# Altium footprint library relay.PCBLIB: 291 footprints (part 10 of 19)
Each footprint in its own frame and in the unit in brackets; x right, y up, seen from the top. Pads: shape width x height; smd on the part's side, far side on the other; paste and mask are expansions set on the pad; w line width, h text height; cw(c..) or ccw(c..) is an arc to the next point about the centre after c.
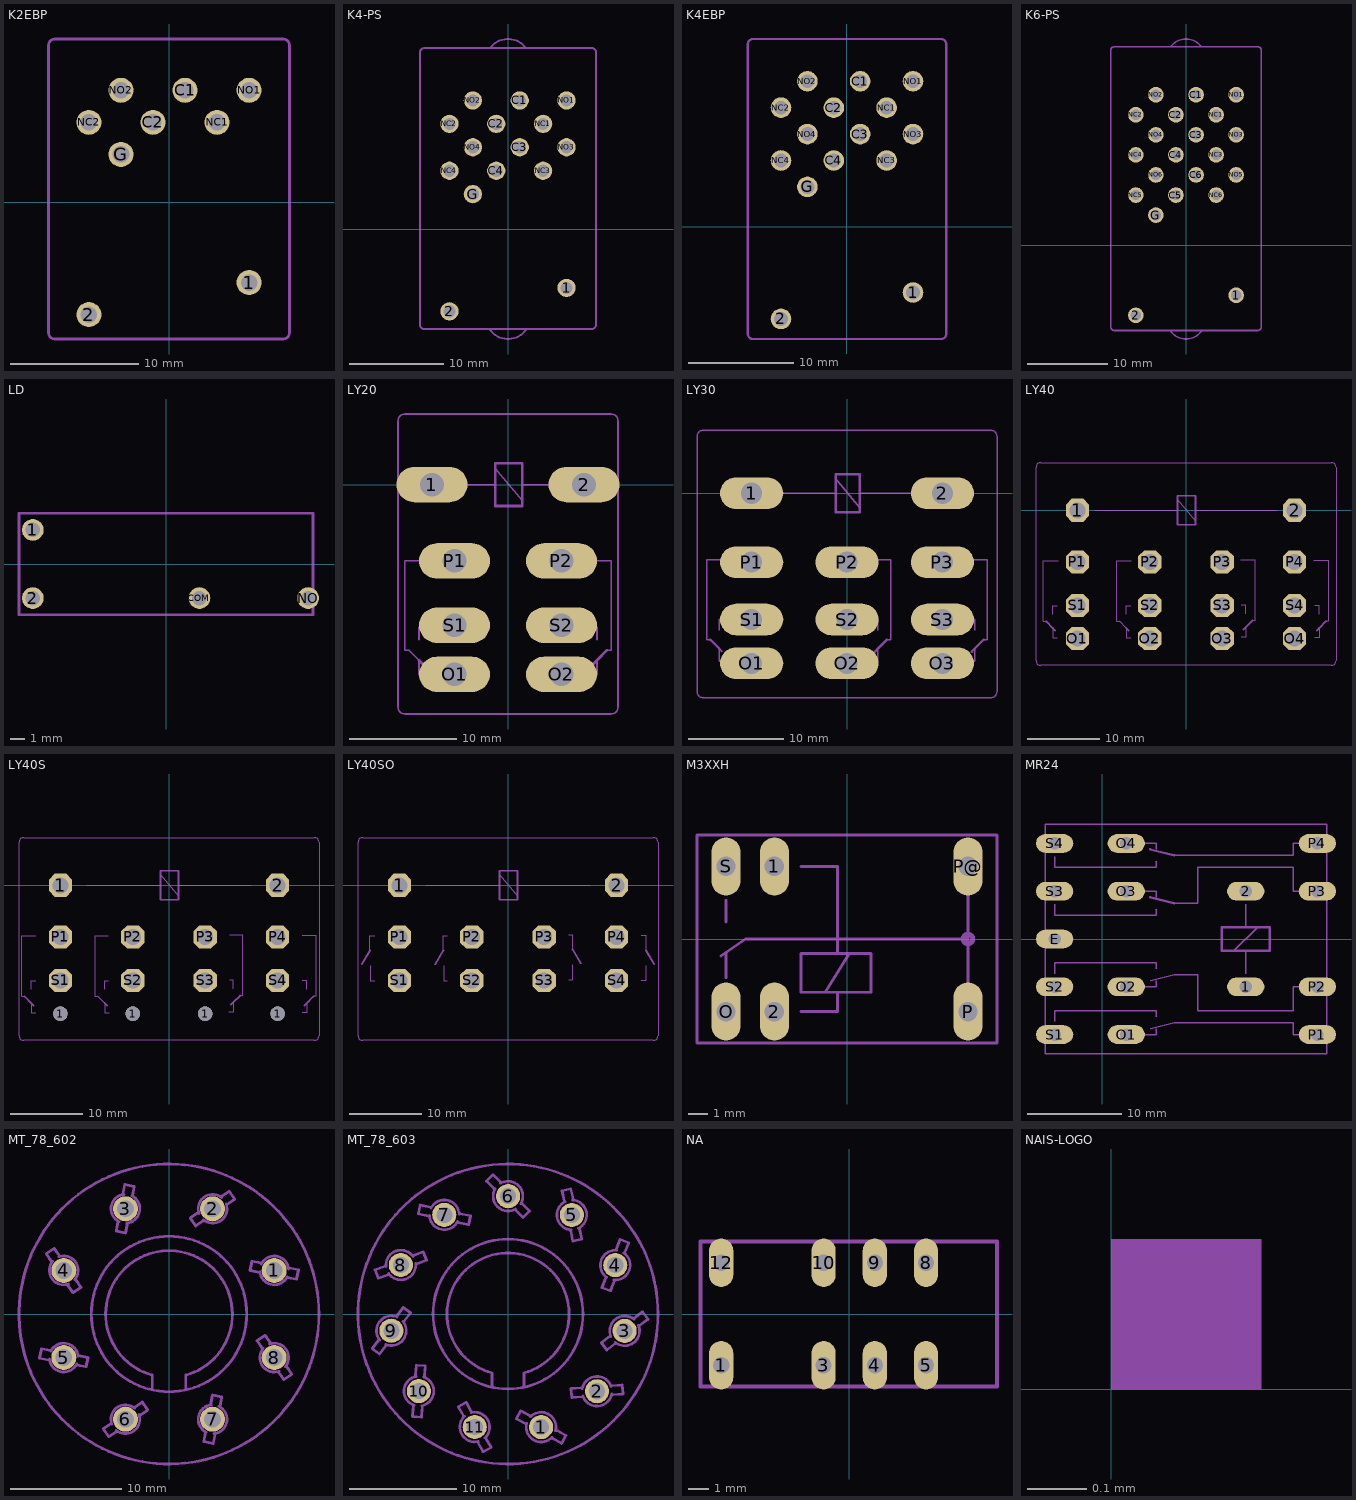
[diagram p9: the footprints below, top view; thin cyan lines are the x and y axes]

## K2EBP [mil]
pads (9):
  round 76.77 hole 51.18: 1(246.06,-246.06) 2(-246.06,-344.49) C1(49.21,344.49) C2(-49.21,246.06) G(-147.64,147.64) NC1(147.64,246.06) NC2(-246.06,246.06) NO1(246.06,344.49) NO2(-147.64,344.49)
Mechanical 2:
  lines w8: -370.08,-399.61 -370.08,482.28 cw(c-350.39,482.28) -350.39,501.97 350.39,501.97 cw(c350.39,482.28) 370.08,482.28 370.08,-399.61 cw(c350.39,-399.61) 350.39,-419.29 -350.39,-419.29 cw(c-350.39,-399.61) -370.08,-399.61

## K4-PS [mil]
pads (15):
  round 76.77 hole 51.18: 1(246.06,-246.06) 2(-246.06,-344.49) C1(49.21,541.34) C2(-49.21,442.91) C3(49.21,344.49) C4(-49.21,246.06) G(-147.64,147.64) NC1(147.64,442.91) NC2(-246.06,442.91) NC3(147.64,246.06) NC4(-246.06,246.06) NO1(246.06,541.34) NO2(-147.64,541.34) NO3(246.06,344.49) NO4(-147.64,344.49)
Mechanical 2:
  lines w8: -74.8,-423.23 ccw(c0,-367.34) 74.8,-423.23 ; -74.8,761.81 -350.39,761.81 ccw(c-350.39,742.12) -370.08,742.13 -370.08,-399.61 ccw(c-350.39,-399.61) -350.39,-419.29 350.39,-419.29 ccw(c350.39,-399.61) 370.08,-399.61 370.08,742.13 ccw(c350.39,742.12) 350.39,761.81 74.8,761.81 ; -74.8,761.81 74.8,761.81 ; -74.8,761.81 cw(c0,705.92) 74.8,761.81

## K4EBP [mil]
pads (15):
  round 76.77 hole 51.18: 1(246.06,-246.06) 2(-246.06,-344.49) C1(49.21,541.34) C2(-49.21,442.91) C3(49.21,344.49) C4(-49.21,246.06) G(-147.64,147.64) NC1(147.64,442.91) NC2(-246.06,442.91) NC3(147.64,246.06) NC4(-246.06,246.06) NO1(246.06,541.34) NO2(-147.64,541.34) NO3(246.06,344.49) NO4(-147.64,344.49)
Mechanical 2:
  lines w8: -370.08,-399.61 -370.08,679.13 cw(c-350.39,679.13) -350.39,698.82 350.39,698.82 cw(c350.39,679.13) 370.08,679.13 370.08,-399.61 cw(c350.39,-399.61) 350.39,-419.29 -350.39,-419.29 cw(c-350.39,-399.61) -370.08,-399.61

## K6-PS [mil]
pads (21):
  round 76.77 hole 51.18: 1(246.06,-246.06) 2(-246.06,-344.49) C1(49.21,738.19) C2(-49.21,639.76) C3(49.21,541.34) C4(-49.21,442.91) C5(-49.21,246.06) C6(49.21,344.49) G(-147.64,147.64) NC1(147.64,639.76) NC2(-246.06,639.76) NC3(147.64,442.91) NC4(-246.06,442.91) NC5(-246.06,246.06) NC6(147.64,246.06) NO1(246.06,738.19) NO2(-147.64,738.19) NO3(246.06,541.34) NO4(-147.64,541.34) NO5(246.06,344.49) NO6(-147.64,344.49)
Mechanical 2:
  lines w8: -74.8,-423.23 ccw(c0,-367.34) 74.8,-423.23 ; -74.8,974.41 -350.39,974.41 ccw(c-350.39,954.72) -370.08,954.72 -370.08,-399.61 ccw(c-350.39,-399.61) -350.39,-419.29 350.39,-419.29 ccw(c350.39,-399.61) 370.08,-399.61 370.08,954.72 ccw(c350.39,954.72) 350.39,974.41 74.8,974.41 ; -74.8,974.41 74.8,974.41 ; -74.8,974.41 cw(c0,918.52) 74.8,974.41

## LD [mm]
pads (4):
  round 1.5 hole 1: 1(-9.2,2.35) 2(-9.2,-2.35) COM(2.3,-2.35) NO(9.8,-2.35)
Mechanical 2:
  lines w0.203: 10.15,-3.5 -10.15,-3.5 -10.15,3.5 10.15,3.5 10.15,-0.7
Mechanical 18:
  lines w0.203: 10.15,-3.5 10.15,-0.7

## LY20 [mil]
pads (8):
  oval 261x130.5 hole 87: 1(-280,0) 2(280,0) O1(-197,-699) O2(197,-699) P1(-197,-281) P2(197,-281) S1(-197,-518) S2(197,-518)
Mechanical 2:
  lines w6: -328,-572 -328,-525 -303,-525 ; -303,-700 -328,-700 -328,-647 -365,-610 -380,-610 -380,-280 -300,-280 ; -186,0 -47,0 ; -47,59 52,-59 ; 52,0 186,0 ; 300,-280 380,-280 380,-610 365,-610 ; 303,-700 328,-700 328,-647 ; 303,-525 328,-525 328,-572 ; -405,-820 -405,235 cw(c-380,235) -380,260 380,260 cw(c380,235) 405,235 405,-820 cw(c380,-820) 380,-845 -380,-845 cw(c-380,-820) -405,-820
  lines w10: -328,-647 -315,-660 ; 315,-660 328,-647 365,-610 ; -47,-79 52,-79 52,-59 52,0 52,79 -47,79 -47,59 -47,0 -47,-79

## LY30 [mil]
pads (11):
  oval 261x130.5 hole 87: 1(-394,0) 2(394,0) O1(-394,-703) O2(0,-703) O3(394,-703) P1(-394,-285) P2(0,-285) P3(394,-285) S1(-394,-522) S2(0,-522) S3(394,-522)
Mechanical 2:
  lines w6: -565,-605 -580,-605 -580,-275 -500,-275 ; -528,-567 -528,-520 -503,-520 ; -515,-655 -528,-642 -528,-695 -503,-695 ; -301,0 -47,0 ; -47,59 52,-59 ; 52,0 301,0 ; 100,-275 180,-275 180,-605 165,-605 ; 103,-695 128,-695 128,-642 ; 103,-520 128,-520 128,-567 ; 500,-275 580,-275 580,-605 565,-605 ; 503,-695 528,-695 528,-642 ; 503,-520 528,-520 528,-567 ; -620,-820 -620,235 cw(c-595,235) -595,260 595,260 cw(c595,235) 620,235 620,-820 cw(c595,-820) 595,-845 -595,-845 cw(c-595,-820) -620,-820
  lines w10: -565,-605 -528,-642 ; 115,-655 128,-642 165,-605 ; 515,-655 528,-642 565,-605 ; -47,-79 52,-79 52,-59 52,0 52,79 -47,79 -47,59 -47,0 -47,-79

## LY40 [mil]
pads (14):
  oct 126.36x126.36 hole 87: 1(-591,0) 2(591,0) O1(-591,-699) O2(-197,-699) O3(197,-699) O4(591,-699) P1(-591,-281) P2(-197,-281) P3(197,-281) P4(591,-281) S1(-591,-518) S2(-197,-518) S3(197,-518) S4(591,-518)
Mechanical 2:
  lines w6: -762,-605 -777,-605 -777,-275 -697,-275 ; -725,-642 -725,-695 -700,-695 ; -725,-567 -725,-520 -700,-520 ; -498,0 -47,0 ; -325,-567 -325,-520 -300,-520 ; -300,-695 -325,-695 -325,-642 -362,-605 -377,-605 -377,-275 -297,-275 ; -47,59 52,-59 ; 52,0 498,0 ; 297,-271 377,-271 377,-601 362,-601 ; 300,-691 325,-691 325,-638 ; 300,-516 325,-516 325,-563 ; 697,-275 777,-275 777,-605 762,-605 ; 700,-695 725,-695 725,-642 ; 700,-520 725,-520 725,-567 ; -817,-820 -817,235 cw(c-792,235) -792,260 792,260 cw(c792,235) 817,235 817,-820 cw(c792,-820) 792,-845 -792,-845 cw(c-792,-820) -817,-820
  lines w10: -762,-605 -725,-642 -712,-655 ; -325,-642 -312,-655 ; 312,-651 325,-638 362,-601 ; 712,-655 725,-642 762,-605 ; -47,-79 52,-79 52,-59 52,0 52,79 -47,79 -47,59 -47,0 -47,-79

## LY40S [mil]
pads (14):
  round 79 hole 79: 1(-591,-699) 1(-197,-699) 1(197,-699) 1(591,-699)
  oct 126.36x126.36 hole 87: 1(-591,0) 2(591,0) P1(-591,-281) P2(-197,-281) P3(197,-281) P4(591,-281) S1(-591,-518) S2(-197,-518) S3(197,-518) S4(591,-518)
Top Solder:
  lines w45: -701,-568 -701,-468 ; -701,-331 -701,-231 ; -481,-568 -481,-468 ; -481,-331 -481,-231 ; -307,-568 -307,-468 ; -307,-331 -307,-231 ; -87,-568 -87,-468 ; -87,-331 -87,-231 ; 87,-568 87,-468 ; 87,-331 87,-231 ; 307,-568 307,-468 ; 307,-331 307,-231 ; 481,-568 481,-468 ; 481,-331 481,-231 ; 481,-50 481,50 ; 701,-568 701,-468 ; 701,-331 701,-231 ; 701,-50 701,50 ; -681,-50 -701,-50 -701,50 -681,50 ; -681,-50 -681,50 ; -681,-50 -501,-50 ; -681,50 -501,50 ; -501,-50 -481,-50 -481,50 -501,50 ; -501,-50 -501,50 ; -681,-568 -501,-568 -501,-468 -681,-468 -681,-568 ; -681,-331 -501,-331 -501,-231 -681,-231 -681,-331 ; -287,-568 -107,-568 -107,-468 -287,-468 -287,-568 ; -287,-331 -107,-331 -107,-231 -287,-231 -287,-331 ; 107,-568 287,-568 287,-468 107,-468 107,-568 ; 107,-331 287,-331 287,-231 107,-231 107,-331 ; 501,-568 681,-568 681,-468 501,-468 501,-568 ; 501,-331 681,-331 681,-231 501,-231 501,-331 ; 501,-50 681,-50 681,50 501,50 501,-50
Bottom Solder:
  lines w45: -681,-568 -501,-568 ; -681,-568 -701,-568 -701,-468 -681,-468 ; -681,-568 -681,-468 ; -681,-468 -501,-468 ; -681,-331 -501,-331 ; -681,-331 -701,-331 -701,-231 -681,-231 ; -681,-331 -681,-231 ; -681,-231 -501,-231 ; -681,-50 -501,-50 ; -681,-50 -701,-50 -701,50 -681,50 ; -681,-50 -681,50 ; -681,50 -501,50 ; -501,-568 -481,-568 -481,-468 -501,-468 ; -501,-568 -501,-468 ; -501,-331 -481,-331 -481,-231 -501,-231 ; -501,-331 -501,-231 ; -501,-50 -481,-50 -481,50 -501,50 ; -501,-50 -501,50 ; -287,-568 -107,-568 ; -287,-568 -307,-568 -307,-468 -287,-468 ; -287,-568 -287,-468 ; -287,-468 -107,-468 ; -287,-331 -107,-331 ; -287,-331 -307,-331 -307,-231 -287,-231 ; -287,-331 -287,-231 ; -287,-231 -107,-231 ; -107,-568 -87,-568 -87,-468 -107,-468 ; -107,-568 -107,-468 ; -107,-331 -87,-331 -87,-231 -107,-231 ; -107,-331 -107,-231 ; 107,-568 287,-568 ; 107,-568 87,-568 87,-468 107,-468 ; 107,-568 107,-468 ; 107,-468 287,-468 ; 107,-331 287,-331 ; 107,-331 87,-331 87,-231 107,-231 ; 107,-331 107,-231 ; 107,-231 287,-231 ; 287,-568 307,-568 307,-468 287,-468 ; 287,-568 287,-468 ; 287,-331 307,-331 307,-231 287,-231 ; 287,-331 287,-231 ; 501,-568 681,-568 ; 501,-568 481,-568 481,-468 501,-468 ; 501,-568 501,-468 ; 501,-468 681,-468 ; 501,-331 681,-331 ; 501,-331 481,-331 481,-231 501,-231 ; 501,-331 501,-231 ; 501,-231 681,-231 ; 501,-50 681,-50 ; 501,-50 481,-50 481,50 501,50 ; 501,-50 501,50 ; 501,50 681,50 ; 681,-568 701,-568 701,-468 681,-468 ; 681,-568 681,-468 ; 681,-331 701,-331 701,-231 681,-231 ; 681,-331 681,-231 ; 681,-50 701,-50 701,50 681,50 ; 681,-50 681,50
Mechanical 2:
  lines w6: -787,-605 -802,-605 -802,-275 -727,-275 ; -750,-642 -750,-695 -725,-695 ; -750,-567 -750,-520 -725,-520 ; -448,0 -47,0 ; -350,-567 -350,-520 -330,-520 ; -332,-275 -402,-275 -402,-605 -387,-605 -350,-642 -350,-695 -325,-695 ; -47,59 52,-59 ; 52,0 448,0 ; 325,-691 350,-691 350,-638 ; 330,-516 350,-516 350,-563 ; 332,-271 402,-271 402,-601 387,-601 ; 725,-695 750,-695 750,-642 ; 725,-520 750,-520 750,-567 ; 727,-275 802,-275 802,-605 787,-605 ; -817,-820 -817,235 cw(c-792,235) -792,260 792,260 cw(c792,235) 817,235 817,-820 cw(c792,-820) 792,-845 -792,-845 cw(c-792,-820) -817,-820
  lines w10: -787,-605 -750,-642 -737,-655 ; -350,-642 -337,-655 ; 337,-651 350,-638 387,-601 ; 737,-655 750,-642 787,-605 ; -47,-79 52,-79 52,-59 52,0 52,79 -47,79 -47,59 -47,0 -47,-79

## LY40SO [mil]
pads (10):
  oct 126.36x126.36 hole 87: 1(-591,0) 2(591,0) P1(-591,-281) P2(-197,-281) P3(197,-281) P4(591,-281) S1(-591,-518) S2(-197,-518) S3(197,-518) S4(591,-518)
Top Solder:
  lines w45: -701,-568 -701,-468 ; -701,-331 -701,-231 ; -701,-50 -701,50 ; -481,-568 -481,-468 ; -481,-331 -481,-231 ; -481,-50 -481,50 ; -307,-568 -307,-468 ; -307,-331 -307,-231 ; -87,-568 -87,-468 ; -87,-331 -87,-231 ; 87,-568 87,-468 ; 87,-331 87,-231 ; 307,-568 307,-468 ; 307,-331 307,-231 ; 481,-568 481,-468 ; 481,-331 481,-231 ; 481,-50 481,50 ; 701,-568 701,-468 ; 701,-331 701,-231 ; 701,-50 701,50 ; -681,-568 -501,-568 -501,-468 -681,-468 -681,-568 ; -681,-331 -501,-331 -501,-231 -681,-231 -681,-331 ; -681,-50 -501,-50 -501,50 -681,50 -681,-50 ; -287,-568 -107,-568 -107,-468 -287,-468 -287,-568 ; -287,-331 -107,-331 -107,-231 -287,-231 -287,-331 ; 107,-568 287,-568 287,-468 107,-468 107,-568 ; 107,-331 287,-331 287,-231 107,-231 107,-331 ; 501,-568 681,-568 681,-468 501,-468 501,-568 ; 501,-331 681,-331 681,-231 501,-231 501,-331 ; 501,-50 681,-50 681,50 501,50 501,-50
Bottom Solder:
  lines w45: -681,-568 -501,-568 ; -681,-568 -701,-568 -701,-468 -681,-468 ; -681,-568 -681,-468 ; -681,-468 -501,-468 ; -681,-331 -501,-331 ; -681,-331 -701,-331 -701,-231 -681,-231 ; -681,-331 -681,-231 ; -681,-231 -501,-231 ; -681,-50 -501,-50 ; -681,-50 -701,-50 -701,50 -681,50 ; -681,-50 -681,50 ; -681,50 -501,50 ; -501,-568 -481,-568 -481,-468 -501,-468 ; -501,-568 -501,-468 ; -501,-331 -481,-331 -481,-231 -501,-231 ; -501,-331 -501,-231 ; -501,-50 -481,-50 -481,50 -501,50 ; -501,-50 -501,50 ; -287,-568 -107,-568 ; -287,-568 -307,-568 -307,-468 -287,-468 ; -287,-568 -287,-468 ; -287,-468 -107,-468 ; -287,-331 -107,-331 ; -287,-331 -307,-331 -307,-231 -287,-231 ; -287,-331 -287,-231 ; -287,-231 -107,-231 ; -107,-568 -87,-568 -87,-468 -107,-468 ; -107,-568 -107,-468 ; -107,-331 -87,-331 -87,-231 -107,-231 ; -107,-331 -107,-231 ; 107,-568 287,-568 ; 107,-568 87,-568 87,-468 107,-468 ; 107,-568 107,-468 ; 107,-468 287,-468 ; 107,-331 287,-331 ; 107,-331 87,-331 87,-231 107,-231 ; 107,-331 107,-231 ; 107,-231 287,-231 ; 287,-568 307,-568 307,-468 287,-468 ; 287,-568 287,-468 ; 287,-331 307,-331 307,-231 287,-231 ; 287,-331 287,-231 ; 501,-568 681,-568 ; 501,-568 481,-568 481,-468 501,-468 ; 501,-568 501,-468 ; 501,-468 681,-468 ; 501,-331 681,-331 ; 501,-331 481,-331 481,-231 501,-231 ; 501,-331 501,-231 ; 501,-231 681,-231 ; 501,-50 681,-50 ; 501,-50 481,-50 481,50 501,50 ; 501,-50 501,50 ; 501,50 681,50 ; 681,-568 701,-568 701,-468 681,-468 ; 681,-568 681,-468 ; 681,-331 701,-331 701,-231 681,-231 ; 681,-331 681,-231 ; 681,-50 701,-50 701,50 681,50 ; 681,-50 681,50
Mechanical 2:
  lines w6: -752,-355 -752,-275 -727,-275 ; -750,-437 -750,-520 -725,-520 ; -448,0 -47,0 ; -352,-355 -352,-275 -332,-275 ; -350,-437 -350,-520 -330,-520 ; -47,59 52,-59 ; 52,0 448,0 ; 330,-516 350,-516 ; 332,-271 352,-271 352,-350 352,-351 ; 350,-515 350,-432 ; 725,-520 750,-520 750,-437 ; 727,-275 752,-275 752,-355 ; -817,-820 -817,235 cw(c-792,235) -792,260 792,260 cw(c792,235) 817,235 817,-820 cw(c792,-820) 792,-845 -792,-845 cw(c-792,-820) -817,-820
  lines w10: -797,-430 -752,-355 ; -397,-430 -352,-355 ; 352,-350 397,-425 ; 752,-355 797,-430 ; -47,-79 52,-79 52,-59 52,0 52,79 -47,79 -47,59 -47,0 -47,-79

## M3XXH [mil]
pads (6):
  oval 60x120 hole 40: 1(-150,150) 2(-150,-150) O(-250,-150) P(250,-150) P@(250,150) S(-250,150)
Mechanical 2:
  circle w10: c250,0 r10
  lines w6: -275,-215 -310,-215 -310,215 -275,215 ; -260,-35 -210,0 250,0 ; -250,-80 -250,-30 ; -250,35 -250,80 ; -225,-215 -175,-215 ; -225,215 -175,215 ; -125,-215 310,-215 310,215 -125,215 ; -95,-150 -20,-150 -20,-110 ; -95,150 -20,150 -20,-30 ; 250,-90 250,0 ; 250,90 250,0 ; -45,-110 -95,-110 -95,-30 -20,-30 ; -45,-110 -20,-110 ; -45,-110 5,-30 ; -20,-110 50,-110 50,-30 5,-30 ; -20,-30 5,-30
Mechanical 18:
  lines w6: -275,-215 -225,-215 ; -275,215 -225,215 ; -175,-215 -125,-215 ; -175,215 -125,215

## MR24 [mil]
pads (15):
  oval 156x78 hole 52: 1(600,-200) 2(600,200) E(-200,0) O1(100,-400) O2(100,-200) O3(100,200) O4(100,400) P1(900,-400) P2(900,-200) P3(900,200) P4(900,400) S1(-200,-400) S2(-200,-200) S3(-200,200) S4(-200,400)
Mechanical 2:
  lines w6: -240,-440 -240,-480 940,-480 940,-440 ; -240,-360 -240,-240 ; -240,-160 -240,-40 ; -240,40 -240,160 ; -240,240 -240,360 ; -240,440 -240,480 940,480 940,440 ; -200,-345 -200,-300 225,-300 225,-325 ; -200,-145 -200,-100 225,-100 225,-125 ; -200,145 -200,100 225,100 225,125 ; -200,345 -200,300 225,300 225,325 ; 155,-400 225,-400 225,-375 ; 155,-200 225,-200 225,-175 ; 155,200 225,200 225,175 ; 155,400 225,400 225,375 ; 200,-375 300,-350 800,-350 800,-400 845,-400 ; 200,-175 300,-150 400,-150 400,-300 800,-300 800,-200 845,-200 ; 300,150 400,150 400,300 800,300 800,200 845,200 ; 300,350 800,350 800,400 845,400 ; 550,-50 650,50 ; 600,-145 600,-50 ; 600,50 600,145 ; 940,-360 940,-240 ; 940,-160 940,160 ; 940,240 940,360
  lines w10: 200,175 300,150 ; 200,375 300,350 ; 500,-50 500,50 600,50 650,50 700,50 700,-50 600,-50 550,-50 500,-50
Mechanical 18:
  lines w6: -240,-440 -240,-360 ; -240,-240 -240,-160 ; -240,-40 -240,40 ; -240,160 -240,240 ; -240,360 -240,440 ; 940,-440 940,-360 ; 940,-240 940,-160 ; 940,160 940,240 ; 940,360 940,440

## MT_78_602 [mil]
pads (8):
  round 88.59 hole 59.06: 1(372.83,154.43) 2(154.43,372.83) 3(-154.43,372.83) 4(-372.83,154.43) 5(-372.83,-154.43) 6(-154.43,-372.83) 7(154.43,-372.83) 8(372.83,-154.43)
Mechanical 2:
  circle w10: c0,0 r531.5
  circle w10: c0,0 r275.59
  lines w10: -423.85,-163.56 -458.65,-156.59 -451.69,-123.19 -418.98,-129.45 ; -423.85,-159.38 ccw(c-373.04,-154.51) -327.1,-176.78 ; -418.97,-132.24 cw(c-373.04,-154.5) -322.24,-149.63 ; -415.35,184.06 -435.04,213.58 -406.5,232.28 -387.8,204.72 ; -412.4,187.01 ccw(c-373.03,154.52) -356.3,106.3 ; -389.76,202.76 cw(c-373.03,154.54) -333.66,122.05 ; -360.24,104.33 -340.55,75.79 -312.01,94.49 -331.69,124.02 ; -328.5,-180.95 -294.4,-187.22 -287.44,-153.81 -322.24,-146.85 ; -204.72,-387.8 -232.28,-406.5 -213.58,-435.04 -184.06,-415.35 ; -202.76,-389.76 cw(c-154.54,-373.03) -122.05,-333.66 ; -187.01,-412.4 ccw(c-154.52,-373.03) -106.3,-356.3 ; -180.95,328.5 -187.22,294.4 -153.81,287.44 -146.85,322.24 ; -176.78,327.1 cw(c-154.51,373.04) -159.38,423.85 ; -163.56,423.85 -156.59,458.65 -123.19,451.69 -129.45,418.98 ; -149.63,322.24 ccw(c-154.5,373.04) -132.24,418.97 ; -124.02,-331.69 -94.49,-312.01 -75.79,-340.55 -104.33,-360.24 ; -59.06,-267.72 -59.06,-216.54 cw(c0,0.01) 59.06,-216.54 59.06,-267.72 ; 104.33,360.24 75.79,340.55 94.49,312.01 124.02,331.69 ; 106.3,356.3 cw(c154.52,373.03) 187.01,412.4 ; 122.05,333.66 ccw(c154.54,373.03) 202.76,389.76 ; 129.45,-418.98 123.19,-451.69 156.59,-458.65 163.56,-423.85 ; 132.24,-418.97 cw(c154.5,-373.04) 149.63,-322.24 ; 146.85,-322.24 153.81,-287.44 187.22,-294.4 180.95,-328.5 ; 159.38,-423.85 ccw(c154.51,-373.04) 176.78,-327.1 ; 184.06,415.35 213.58,435.04 232.28,406.5 204.72,387.8 ; 322.24,146.85 287.44,153.81 294.4,187.22 328.5,180.95 ; 322.24,149.63 ccw(c373.04,154.5) 418.97,132.24 ; 327.1,176.78 cw(c373.04,154.51) 423.85,159.38 ; 331.69,-124.02 312.01,-94.49 340.55,-75.79 360.24,-104.33 ; 333.66,-122.05 ccw(c373.03,-154.54) 389.76,-202.76 ; 356.3,-106.3 cw(c373.03,-154.52) 412.4,-187.01 ; 387.8,-204.72 406.5,-232.28 435.04,-213.58 415.35,-184.06 ; 418.98,129.45 451.69,123.19 458.65,156.59 423.85,163.56

## MT_78_603 [mil]
pads (11):
  round 88.59 hole 59.06: 1(121.69,-415.62) 2(327.04,-283.89) 3(428.6,-62.07) 4(394.14,179.45) 5(234.6,364.02) 6(0.61,433.07) 7(-234.09,364.35) 8(-393.89,180) 9(-428.69,-61.47) 10(-327.44,-283.43) 11(-122.28,-415.45)
Mechanical 2:
  circle w10: c0,0 r551.18
  circle w10: c0,0 r275.59
  lines w10: -475.44,-96.01 -498.81,-127.2 -472.07,-147.24 -448.7,-116.04 ; -471.54,-95.46 cw(c-428.68,-61.47) -408.11,-10.79 ; -451.89,176.21 -488.41,162.6 -476.75,131.3 -440.23,144.91 ; -449.26,-112.15 ccw(c-428.69,-61.47) -385.83,-27.48 ; -448.31,174.57 cw(c-393.89,180) -349.19,211.52 ; -438.59,148.49 ccw(c-393.89,180) -339.46,185.43 ; -408.67,-6.89 -385.3,24.3 -358.57,4.27 -381.93,-26.93 ; -348.1,-337.77 -350.9,-376.64 -317.58,-379.04 -314.78,-340.17 ; -347.55,215.1 -311.03,228.71 -299.36,197.41 -335.89,183.8 ; -345.12,-335.19 cw(c-327.44,-283.44) -337.52,-229.68 ; -340.1,-226.7 -337.3,-187.83 -303.98,-190.23 -306.78,-229.1 ; -317.35,-337.19 ccw(c-327.43,-283.43) -309.75,-231.67 ; -292.05,359.87 -330.13,368.16 -323.02,400.8 -284.94,392.52 ; -288.73,362 ccw(c-234.08,364.35) -185.36,339.5 ; -282.81,389.2 cw(c-234.09,364.35) -179.44,366.7 ; -183.24,336.19 -145.16,327.9 -138.05,360.54 -176.13,368.83 ; -163.59,-374.56 -182.25,-340.34 -152.92,-324.35 -134.26,-358.57 ; -159.82,-375.67 ccw(c-122.27,-415.44) -109.17,-468.55 ; -135.37,-362.35 cw(c-122.27,-415.45) -84.73,-455.23 ; -110.29,-472.33 -91.63,-506.55 -62.3,-490.56 -80.96,-456.34 ; -59.06,-267.72 -59.06,-216.54 cw(c0,0.01) 59.06,-216.54 59.06,-267.72 ; -51.18,460.63 -78.74,488.19 -55.12,511.81 -27.56,484.25 ; -47.24,460.63 ccw(c0,433.07) 27.56,385.83 ; -27.56,480.32 cw(c0,433.07) 47.24,405.51 ; 27.56,381.89 55.12,354.33 78.74,377.95 51.18,405.51 ; 64.83,-403.56 30.64,-384.85 46.67,-355.54 80.86,-374.25 ; 68.61,-402.45 ccw(c121.69,-415.62) 161.42,-453.22 ; 81.97,-378.02 cw(c121.69,-415.62) 174.78,-428.8 ; 162.52,-457 196.72,-475.7 212.75,-446.39 178.56,-427.69 ; 206.5,414.92 198.27,453.01 230.92,460.07 239.16,421.98 ; 209.82,412.78 ccw(c234.6,364.02) 232.17,309.38 ; 230.04,306.07 238.28,267.98 270.93,275.04 262.69,313.13 ; 237.02,418.66 cw(c234.6,364.02) 259.38,315.27 ; 270.33,-271.15 231.45,-273.9 233.8,-307.22 272.68,-304.48 ; 273.3,-273.73 cw(c327.04,-283.89) 378.82,-266.28 ; 275.26,-301.5 ccw(c327.04,-283.89) 380.78,-294.05 ; 358.98,133.17 345.32,96.66 376.61,84.95 390.27,121.45 ; 362.56,134.79 cw(c394.14,179.45) 399.65,233.87 ; 374,-82.01 342.77,-105.33 362.77,-132.09 393.99,-108.77 ; 377.89,-82.57 cw(c428.6,-62.07) 462.65,-19.26 ; 381.41,-263.31 420.28,-260.56 422.63,-293.89 383.76,-296.63 ; 388.63,125.04 ccw(c394.14,179.46) 425.72,224.11 ; 394.56,-104.87 ccw(c428.6,-62.06) 479.3,-41.56 ; 398.02,237.45 411.68,273.96 442.96,262.24 429.3,225.74 ; 463.21,-15.37 494.43,7.96 514.43,-18.8 483.2,-42.13

## NA [mil]
pads (8):
  oval 47.25x94.5 hole 31.5: 1(-250,-100) 3(-50,-100) 4(50,-100) 5(150,-100) 8(150,100) 9(50,100) 10(-50,100) 12(-250,100)
Mechanical 2:
  lines w8: -290.16,-141.73 288.58,-141.73 288.58,141.73 -290.16,141.73 -290.16,-141.73

## NAIS-LOGO [mil]
Mechanical 18:
  region: 0,0 10,0 10,10 0,10
  region: 0,0 10,0 10,10 0,10
  region: 0,0 10,0 10,10 0,10
  region: 0,0 10,0 10,10 0,10
  region: 0,0 10,0 10,10 0,10